# EAGLE library part SP3072EE (library ExitControl_v2_master_library)
IC TXRX RS485/RS422 ESD 8NSOIC
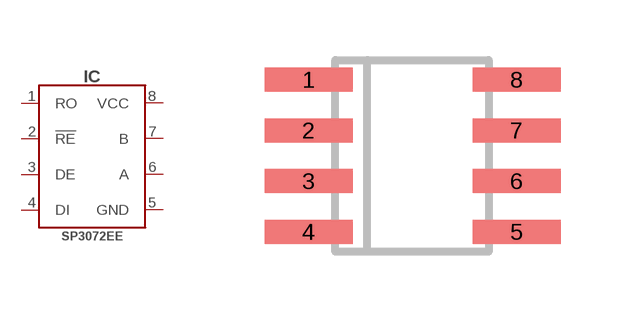
[diagram p7: symbol with the pads of SOIC8-3.9; footprint SOIC8-3.9]

Designator prefix IC

## SP3072EE-SOIC8 (DIGIKEY#: 1016-1784-1-ND; MANF: Exar Corporation; MANF#: SP3072EEN-L/TR)  [SOIC8-3.9]
1  RO  out
2  !RE  in
3  DE  in
4  DI  in
5  GND  pwr
6  A
7  B
8  VCC  pwr

## Footprint SOIC8-3.9 (pad centres in mm)
Small Outline IC
smd 2.2 x 0.6: 1 -2.6,1.905; 2 -2.6,0.635; 3 -2.6,-0.635; 4 -2.6,-1.905; 5 2.6,-1.905; 6 2.6,-0.635; 7 2.6,0.635; 8 2.6,1.905